# Altium schematic symbol library Schlib1.SchLib: 8 symbols
Pins are listed as number, name and electrical type; pins without a type are passive.

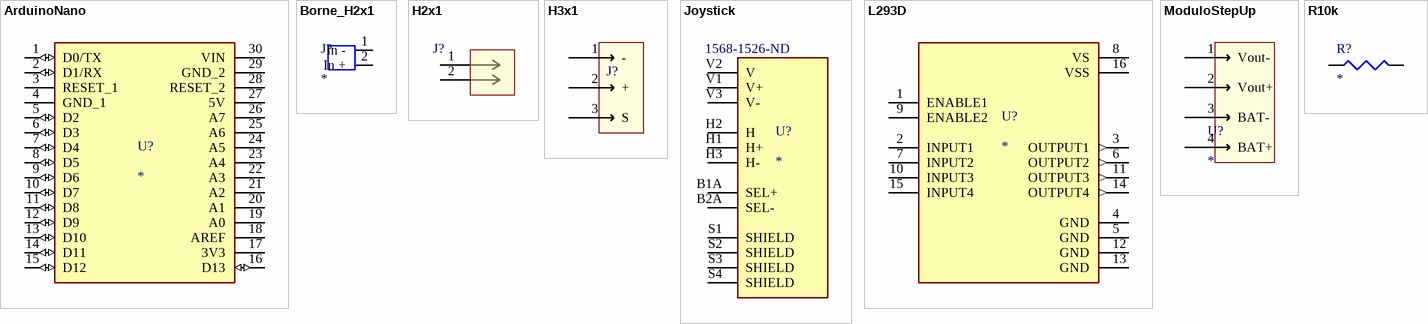
[diagram p0: symbols ArduinoNano to R10k]

## ArduinoNano
designator U?
Small, complete, and breadboard-friendly board based on the ATmega328 (Arduino Nano 3.x).; MP: A000005; Check_prices: https://www.snapeda.com/parts/A000005/Arduino/view-part/?ref=eda; Value: *; Availability: In Stock; Price: None; Package: Non-Standard Arduino; SnapEDA_Link: https://www.snapeda.com/parts/A000005/Arduino/view-part/?ref=snap; Purchase-URL: https://pricing.snapeda.com/search/part/A000005/?ref=eda; MF: Arduino
footprint ArduinoNano
pins: 1 D0/TX (io), 2 D1/RX (io), 3 RESET_1, 4 GND_1 (power), 5 D2 (io), 6 D3 (io), 7 D4 (io), 8 D5 (io), 9 D6 (io), 10 D7 (io), 11 D8 (io), 12 D9 (io), 13 D10 (io), 14 D11 (io), 15 D12 (io), 16 D13 (io), 17 3V3 (power), 18 AREF, 19 A0, 20 A1, 21 A2, 22 A3, 23 A4, 24 A5, 25 A6, 26 A7, 27 5V (power), 28 RESET_2, 29 GND_2 (power), 30 VIN (power)

## Borne_H2x1
designator J?
pins: 1 In -, 2 In +

## H2x1
designator J?, comment Header 2x1  (value not drawn)
No Description Available; Mfr_Name: Wurth Electronics; RefDes: RefDes; Type: Type
footprint 2pin
pins: 1, 2

## H3x1
designator J?, comment HDR1x3  (value not drawn)
THT Vertical Pin Header WR-PHD, Pitch 2.54 mm, Single Row, 3 pins; Manufacturer: Wurth Electronics; Manufacturer Part Number: 61300311121; Number of Positions: 3; Gender: Male; Contact Resistance: 20mR; Current Rating: 3A; Voltage Rating: 250V; Pitch: 0.1inch; Supplier 1: Digikey; RoHS: Yes; Category: Connectors; Stock 1: 144979; Pricing 1: 1=0,13, 10=0,113, 25=0,094, 50=0,079, 100=0,071, 1000=0,066 (USD); Mount: Through Hole; Contact Plating: Gold; Contact Material: Copper; Color: Black; Min Operating Temperature: -40°C; Max Operating Temperature: 105°C; Number of Rows: 1; Packaging: Bulk; Termination: Solder; Number of Contacts: 3; Series: WR-PHD; Contact Type: Male Pin; Operating Supply Voltage: 250V; Orientation: 5495OrientationType; Height: 8.94mm; Contact Mating Length: 0.236inch; Lead Free: Lead Free; RoHS Compliant: Yes; Reach SVHC Compliant: Unknown; ComponentLink1URL: https://katalog.we-online.de/em/datasheet/6130xx11121.pdf?src-supplier=Digikey; ComponentLink1Description: https://katalog.we-online.de/em/datasheet/6130xx11121.pdf?src-supplier=Digikey; ComponentLink2URL: http://www.farnell.com/cad/1737268.pdf?src-supplier=Element14; ComponentLink2Description: http://www.farnell.com/cad/1737268.pdf?src-supplier=Element14; ComponentLink3URL: https://datasheet.octopart.com/61300311121-W%C3%BCrth-Elektronik-datasheet-21154836.pdf?src-supplier=Element14; ComponentLink3Description: https://datasheet.octopart.com/61300311121-W%C3%BCrth-Elektronik-datasheet-21154836.pdf?src-supplier=Element14; Supplier Part Number 1: 732-5316-ND
footprint HDR1x3
pins: 1 -, 2 +, 3 S

## Joystick
designator U?  Supplier Part Number 1: 1568-1526-ND
Thumb Joystick; MP: COM-09032; Price: None; Availability: Unavailable; Value: *; Package: None; Supplier 1: Digikey
footprint Joystick
pins: B1A SEL+, B2A SEL-, H1 H+, H2 H, H3 H-, S1 SHIELD, S2 SHIELD, S3 SHIELD, S4 SHIELD, V1 V+, V2 V, V3 V-

## L293D
designator U?
Bipolar Motor Driver - Parallel 16-PowerDIP; MP: L293D; MF: STMicroelectronics; Package: DIP-16 STMicroelectronics; SnapEDA_Link: https://www.snapeda.com/parts/L293D/STMicroelectronics/view-part/?ref=snap; Purchase-URL: https://pricing.snapeda.com/search/part/L293D/?ref=eda; Check_prices: https://www.snapeda.com/parts/L293D/STMicroelectronics/view-part/?ref=eda; Availability: In Stock; Value: *; Price: None
footprint L293D
pins: 1 ENABLE1, 2 INPUT1, 3 OUTPUT1 (out), 4 GND (power), 5 GND (power), 6 OUTPUT2 (out), 7 INPUT2, 8 VS (power), 9 ENABLE2, 10 INPUT3, 11 OUTPUT3 (out), 12 GND (power), 13 GND (power), 14 OUTPUT4 (out), 15 INPUT4, 16 VSS (power)

## ModuloStepUp
designator U?
footprint StepUp
pins: 1 Vout-, 2 Vout+, 3 BAT-, 4 BAT+

## R10k
designator R?
Supplier 1: Digikey; Supplier Part Number 1: RNF14FTD10K0CT-ND
footprint R10k
pins: 1, 2